# Altium footprint library SoM.PcbLib: 3 footprints
Each footprint in its own frame and in the unit in brackets; x right, y up, seen from the top. Pads: shape width x height; smd on the part's side, far side on the other; paste and mask are expansions set on the pad; w line width, h text height; cw(c..) or ccw(c..) is an arc to the next point about the centre after c.
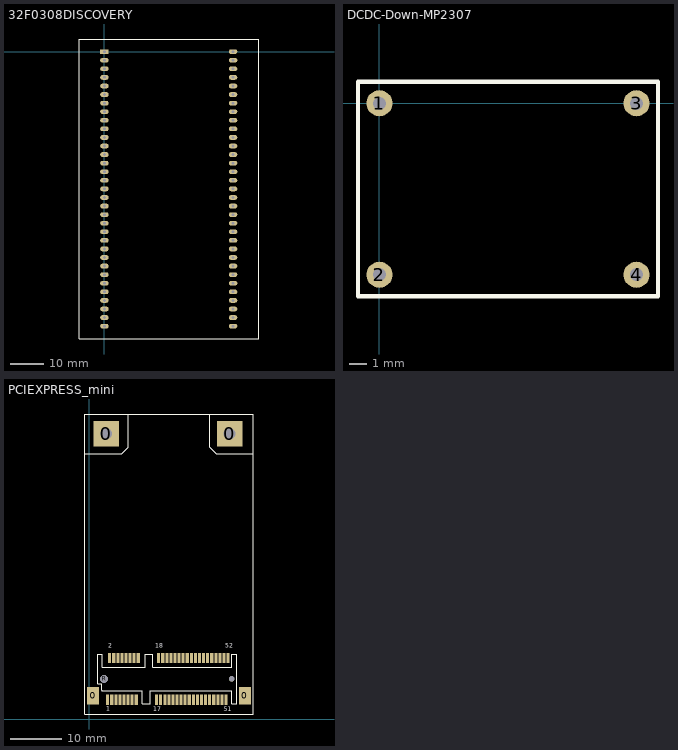
[diagram p0: the footprints below, top view; thin cyan lines are the x and y axes]

## 32F0308DISCOVERY [mm]
pads (66):
  rect 2.5x1.4 / inner rect 2.5x1.2 / far side rect 2.5x1.4 hole 0.8: 1(0,0)
  oval 2.5x1.4 / inner oval 2.5x1.2 / far side oval 2.5x1.4 hole 0.8: 2(0,-2.54) 3(0,-5.08) 4(0,-7.62) 5(0,-10.16) 6(0,-12.7) 7(0,-15.24) 8(0,-17.78) 9(0,-20.32) 10(0,-22.86) 11(0,-25.4) 12(0,-27.94) 13(0,-30.48) 14(0,-33.02) 15(0,-35.56) 16(0,-38.1) 17(0,-40.64) 18(0,-43.18) 19(0,-45.72) 20(0,-48.26) 21(0,-50.8) 22(0,-53.34) 23(0,-55.88) 24(0,-58.42) 25(0,-60.96) 26(0,-63.5) 27(0,-66.04) 28(0,-68.58) 29(0,-71.12) 30(0,-73.66) 31(0,-76.2) 32(0,-78.74) 33(0,-81.28) 34(38.1,-81.28) 35(38.1,-78.74) 36(38.1,-76.2) 37(38.1,-73.66) 38(38.1,-71.12) 39(38.1,-68.58) 40(38.1,-66.04) 41(38.1,-63.5) 42(38.1,-60.96) 43(38.1,-58.42) 44(38.1,-55.88) 45(38.1,-53.34) 46(38.1,-50.8) 47(38.1,-48.26) 48(38.1,-45.72) 49(38.1,-43.18) 50(38.1,-40.64) 51(38.1,-38.1) 52(38.1,-35.56) 53(38.1,-33.02) 54(38.1,-30.48) 55(38.1,-27.94) 56(38.1,-25.4) 57(38.1,-22.86) 58(38.1,-20.32) 59(38.1,-17.78) 60(38.1,-15.24) 61(38.1,-12.7) 62(38.1,-10.16) 63(38.1,-7.62) 64(38.1,-5.08) 65(38.1,-2.54) 66(38.1,0)
Top Overlay:
  lines w0.254: -7.5,-85 -7.5,3.75 45.75,3.75 45.75,-85 45.66,-85.09 38.1,-85.09 0,-85.09 -7.41,-85.09 -7.5,-85
3D body "stm32-disco.stp": height 21.3, standoff -3.16, extent -7.62,-85.1 45.72,5.8

## DCDC-Down-MP2307 [mil]
pads (4):
  round 60 hole 30: 1(0,0) 2(0,-393.7) 3(590.55,0) 4(590.55,-393.7)
Top Overlay:
  lines w10: -49.21,-442.91 -49.21,49.21 639.76,49.21 639.76,39.37 639.76,-442.91 -49.21,-442.91
3D body: height 157.48, standoff 0, extent -49.21,-442.91 639.76,49.21

## PCIEXPRESS_mini [mm]
pads (70):
  rect 2.3x3.5 smd paste-12.7: 0(0.75,4.6) 0(30.5,4.6)
  rect 5x5 hole 2.3: 0(3.3,55.95) 0(27.5,55.95)
  rect 0.6x2 smd paste-0.076: 1(3.6,3.8) 2(4,12) 3(4.4,3.8) 4(4.8,12) 5(5.2,3.8) 6(5.6,12) 7(6,3.8) 8(6.4,12) 9(6.8,3.8) 10(7.2,12) 11(7.6,3.8) 12(8,12) 13(8.4,3.8) 14(8.8,12) 15(9.2,3.8) 16(9.6,12) 17(13.2,3.8) 18(13.6,12) 19(14,3.8) 20(14.4,12) 21(14.8,3.8) 22(15.2,12) 23(15.6,3.8) 24(16,12) 25(16.4,3.8) 26(16.8,12) 27(17.2,3.8) 28(17.6,12) 29(18,3.8) 30(18.4,12) 31(18.8,3.8) 32(19.2,12) 33(19.6,3.8) 34(20,12) 35(20.4,3.8) 36(20.8,12) 37(21.2,3.8) 38(21.6,12) 39(22,3.8) 40(22.4,12) 41(22.8,3.8) 42(23.2,12) 43(23.6,3.8) 44(24,12) 45(24.4,3.8) 46(24.8,12) 47(25.2,3.8) 48(25.6,12) 49(26,3.8) 50(26.4,12) 51(26.8,3.8) 52(27.2,12)
  rect 0.8x0.8 on Top Paste: 14(0.254,5.588) 15(1.27,5.588) 16(0.254,4.572) 17(1.27,4.572) 18(0.254,3.556) 19(1.27,3.556) 20(29.972,5.588) 21(30.988,5.588) 22(29.972,4.572) 23(30.988,4.572) 24(29.972,3.556) 25(30.988,3.556)
  round 1.5 hole 1.6 unplated: R(2.9,7.9)
  round 1 hole 1.1 unplated: R(27.9,7.9)
Top Overlay:
  lines w0.178: -0.85,1.017 -0.85,59.818 20.955,59.818 32.15,59.818 32.15,25.096 32.15,1.017 -0.85,1.017
  lines w0.203: -0.85,52.07 6.35,52.07 7.62,53.34 7.62,59.767 ; 23.58,59.767 23.58,53.34 24.85,52.07 32.15,52.07 ; 1.65,6.9 1.65,12.7 2.54,12.7 2.54,10.16 3.81,10.16 10.922,10.16 10.922,12.7 12.446,12.7 12.446,10.16 27.94,10.16 27.94,12.7 28.9,12.7 28.9,3.048 27.94,3.048 27.94,5.588 11.938,5.588 11.938,3.048 10.414,3.048 10.414,3.302 10.414,5.588 3.81,5.588 2.54,5.588 2.462,5.588 2.4,5.65 2.4,6.9 1.65,6.9
  text "1" at 3.357,1.321 h1.5
  text "17" at 12.552,1.271 h1.5
  text "51" at 26.344,1.271 h1.5
  text "2" at 3.713,13.691 h1.5
  text "18" at 12.933,13.691 h1.5
  text "52" at 26.674,13.717 h1.5
3D body "c-1-1775862-2-f-3d.stp": height 5.15, standoff -0.7, extent 0.493,3.353 30.393,12.433